# EAGLE library part DW01 (library MTS-OTR_Custom)
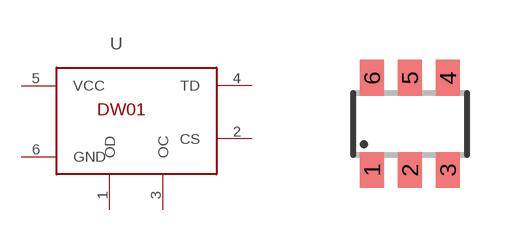
[diagram p1: symbol with the pads of SOT23-6; footprint SOT23-6]

Designator prefix -

## DW01  [SOT23-6]
1  OD  pwr
2  CS  pwr
3  OC  pwr
4  TD  pwr
5  VCC
6  GND

## Footprint SOT23-6 (pad centres in mm)
Small Outline Transistor 6 lead
smd 0.6 x 0.9: 1 -0.95,-1.15; 2 0,-1.15; 3 0.95,-1.15; 4 0.95,1.15; 5 0,1.15; 6 -0.95,1.15